# EAGLE library part STM8S103K* (library stm8s103)
STM8S103K
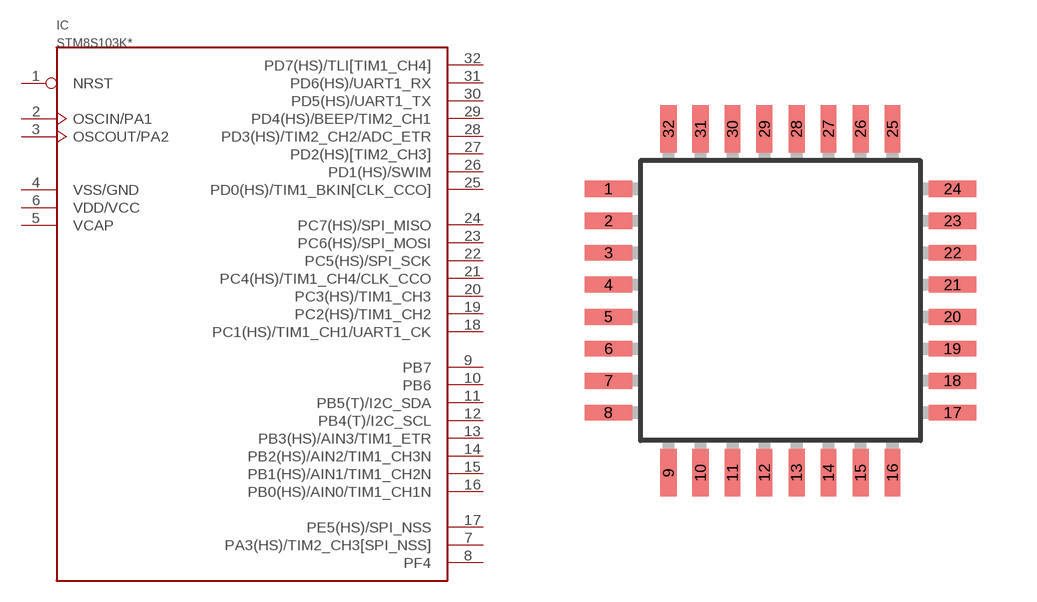
[diagram p1: symbol with the pads of LQFP32-7X7; footprint LQFP32-7X7]

Designator prefix IC

## STM8S103KT  [LQFP32-7X7]
1  NRST
2  OSCIN/PA1
3  OSCOUT/PA2
4  VSS/GND  pwr
5  VCAP  pwr
6  VDD/VCC  pwr
7  PA3(HS)/TIM2_CH3[SPI_NSS]
8  PF4
9  PB7
10  PB6
11  PB5(T)/I2C_SDA
12  PB4(T)/I2C_SCL
13  PB3(HS)/AIN3/TIM1_ETR
14  PB2(HS)/AIN2/TIM1_CH3N
15  PB1(HS)/AIN1/TIM1_CH2N
16  PB0(HS)/AIN0/TIM1_CH1N
17  PE5(HS)/SPI_NSS
18  PC1(HS)/TIM1_CH1/UART1_CK
19  PC2(HS)/TIM1_CH2
20  PC3(HS)/TIM1_CH3
21  PC4(HS)/TIM1_CH4/CLK_CCO
22  PC5(HS)/SPI_SCK
23  PC6(HS)/SPI_MOSI
24  PC7(HS)/SPI_MISO
25  PD0(HS)/TIM1_BKIN[CLK_CCO]
26  PD1(HS)/SWIM
27  PD2(HS)[TIM2_CH3]
28  PD3(HS)/TIM2_CH2/ADC_ETR
29  PD4(HS)/BEEP/TIM2_CH1
30  PD5(HS)/UART1_TX
31  PD6(HS)/UART1_RX
32  PD7(HS)/TLI[TIM1_CH4]

## Footprint LQFP32-7X7 (pad centres in mm)
LQFP-32 package 7x7 mm case, 0.8 mm lead pitch Sourced: Data sheet <http://www.st.com/stonline/products/literature/ds/14771/stm8s105c4.pdf>
smd 1.2 x 0.4: 1 -4.3,2.8; 2 -4.3,2; 3 -4.3,1.2; 4 -4.3,0.4; 5 -4.3,-0.4; 6 -4.3,-1.2; 7 -4.3,-2; 8 -4.3,-2.8; 17 4.3,-2.8; 18 4.3,-2; 19 4.3,-1.2; 20 4.3,-0.4; 21 4.3,0.4; 22 4.3,1.2; 23 4.3,2; 24 4.3,2.8
smd 0.4 x 1.2: 9 -2.8,-4.3; 10 -2,-4.3; 11 -1.2,-4.3; 12 -0.4,-4.3; 13 0.4,-4.3; 14 1.2,-4.3; 15 2,-4.3; 16 2.8,-4.3; 25 2.8,4.3; 26 2,4.3; 27 1.2,4.3; 28 0.4,4.3; 29 -0.4,4.3; 30 -1.2,4.3; 31 -2,4.3; 32 -2.8,4.3